# Altium footprint library PCB1.PcbLib: 16 footprints
Each footprint in its own frame and in the unit in brackets; x right, y up, seen from the top. Pads: shape width x height; smd on the part's side, far side on the other; paste and mask are expansions set on the pad; w line width, h text height; cw(c..) or ccw(c..) is an arc to the next point about the centre after c.
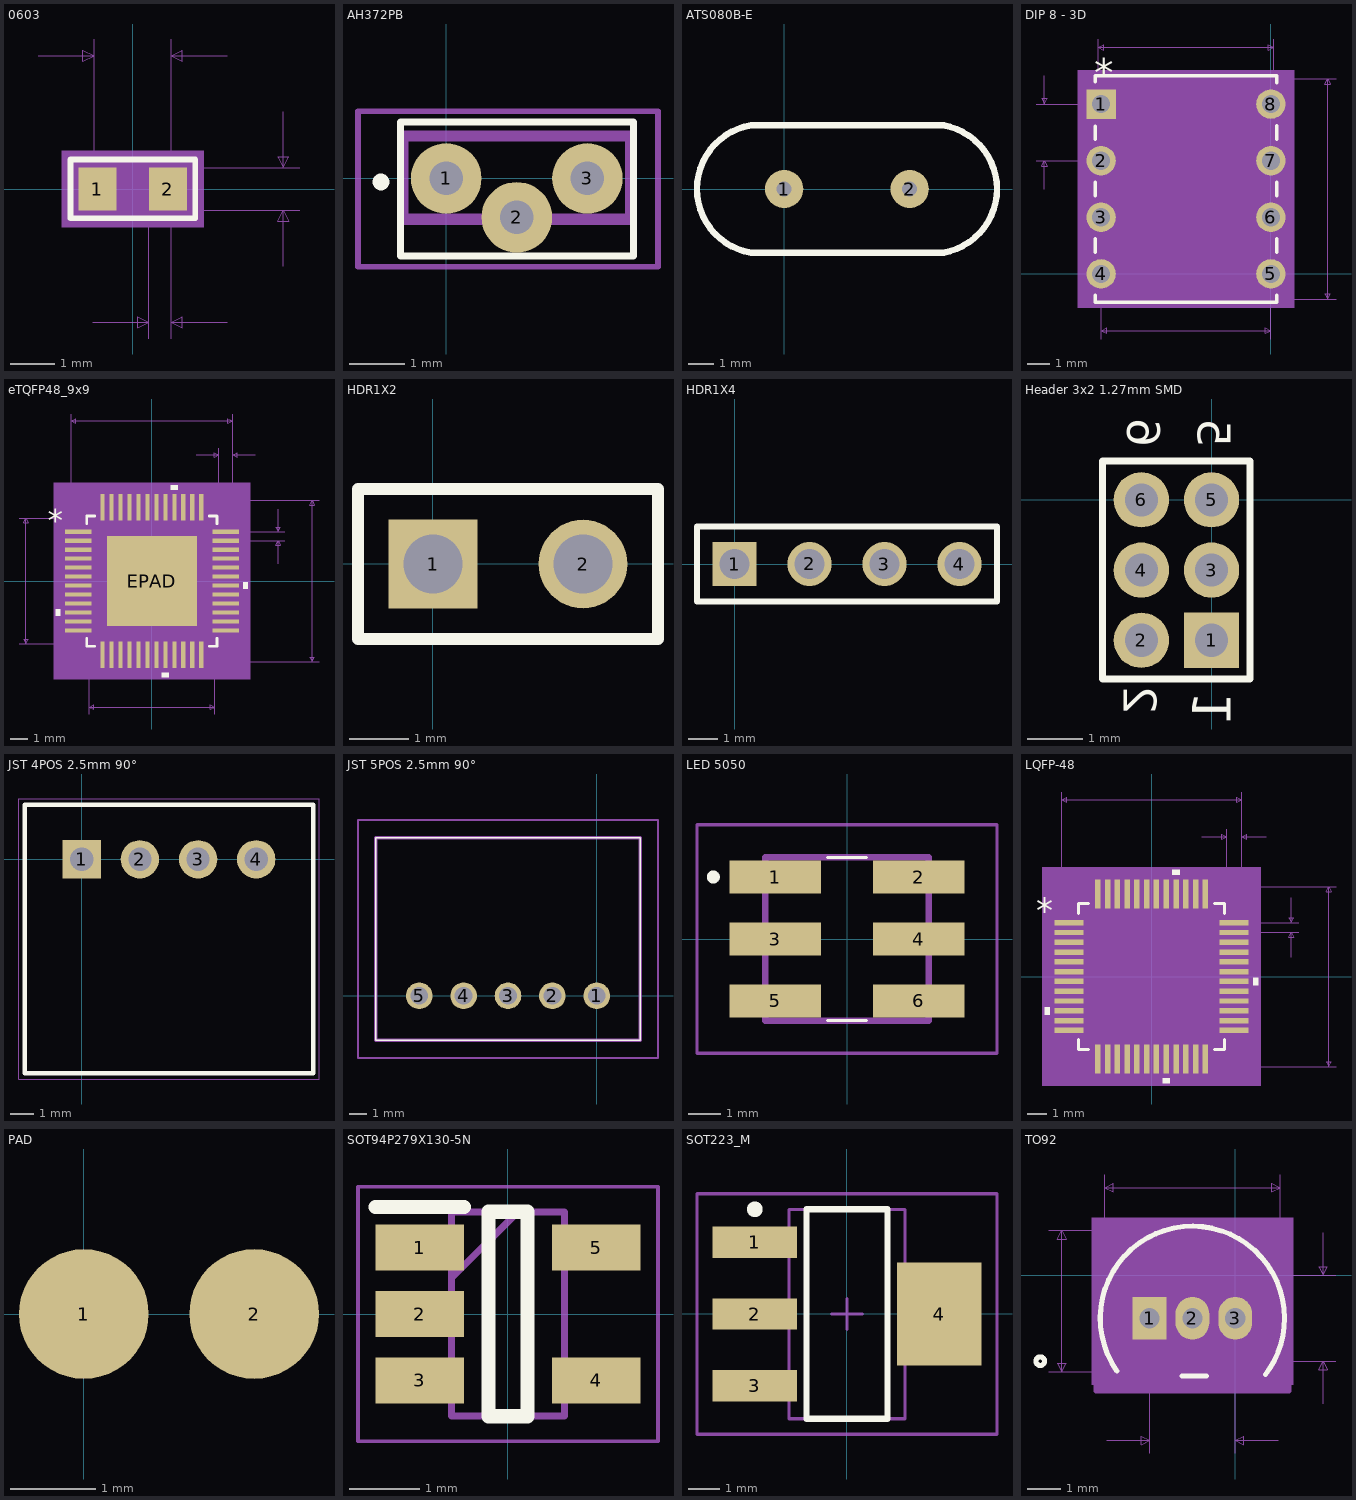
[diagram p0: the footprints below, top view; thin cyan lines are the x and y axes]

## 0603 [mil]
pads (2):
  rect 34x38 smd: 1(-31.5,0) 2(31.5,0)
Top Overlay:
  lines w5: -55.51,-25.98 -55.51,26.38 55.91,26.38 55.91,-25.98 -55.51,-25.98
Mechanical 5:
  region: 63.5,-34 -63.5,-34 -63.5,34 63.5,34
Mechanical 7:
  lines w1: -84.5,119 -34.5,119 ; -35.5,-119 14.5,-119 ; -34.5,0 -34.5,134 ; 0,-19 149.5,-19 ; 0,19 149.5,19 ; 14.5,-134 14.5,0 ; 34.5,-134 34.5,0 34.5,134 ; 84.5,-119 34.5,-119 ; 84.5,119 34.5,119 ; 134.5,-69 134.5,-19 ; 134.5,69 134.5,19 ; -34.5,119 -44.5,124 -44.5,114 -34.5,119 ; 14.5,-119 4.5,-114 4.5,-124 14.5,-119 ; 34.5,-119 44.5,-114 44.5,-124 34.5,-119 ; 34.5,119 44.5,124 44.5,114 34.5,119 ; 134.5,-19 129.5,-29 139.5,-29 134.5,-19 ; 134.5,19 129.5,29 139.5,29 134.5,19
  text "Default Padstyle: RX34Y38D0T" at -350,-289 h50
  text "Alternate 1 Padstyle: OX60Y90D30P" at -412.5,-389 h50
  text "Alternate 2 Padstyle: OX90Y60D30P" at -412.5,-489 h50
  text "0.038in/0.965mm" at 154.5,-12.5 h25
  text "0.069in/1.753mm" at -93.75,139 h25
  text "0.02in/0.508mm" at -63,-164 h25
Mechanical 13:
  lines w1: -34.5,-19 -34.5,19 ; -34.5,-19 -14.5,-19 -14.5,19 -34.5,19 ; -34.5,-19 34.5,-19 ; -34.5,-19 -34.5,19 ; -34.5,19 34.5,19 ; 34.5,-19 14.5,-19 14.5,19 34.5,19 ; 34.5,-19 34.5,19 ; 34.5,-19 34.5,19
Mechanical 15:
  region: 58.5,-29 -58.5,-29 -58.5,29 58.5,29
  lines w6: -58.5,-29 -58.5,29 58.5,29 58.5,-29 -58.5,-29
3D body "0603.step": height 35, standoff 0, extent -34.48,-19.01 34.5,19.02
3D body: height 10, standoff 0, extent 0,0 10,10

## AH372PB [mm]
pads (3):
  round 1.27 hole 0.6: 1(0,0) 2(1.27,-0.7) 3(2.54,0)
Top Overlay:
  lines w0.127: -0.826,-1.397 3.365,-1.397 3.365,1.016 -0.826,1.016 -0.826,-1.397
  lines w0.2: -1.224,-0.063 ccw(c-1.174,-0.063) -1.124,-0.063 ccw(c-1.174,-0.063) -1.224,-0.063
Mechanical 13:
  lines w0.2: -0.78,-0.735 3.32,-0.735 3.32,0.765 -0.78,0.765 -0.78,-0.735
Mechanical 15:
  lines w0.1: -1.588,-1.587 3.81,-1.587 3.81,1.206 -1.588,1.206 -1.588,-1.587

## ATS080B-E [mil] "Crystal/ Oscillator 8MHz"
height 144.88
pads (2):
  round 60 hole 23.62: 1(0,0) 2(196.85,0)
Top Overlay:
  lines w10: -51.71,-100 cw(c-35.43,0) -51.71,100 ; -50,-100 250,-100 ; -50,100 250,100 ; 249.41,-100 ccw(c232.28,0) 249.41,100
3D body: height 106.3, standoff 0, extent -50,100 -50,100
3D body: height 106.3, standoff 0, extent -129.92,102.36 -129.92,102.36
3D body: height 157.48, standoff 0, extent 148.04,-99.87 348.04,99.88
3D body: height 157.48, standoff 0, extent -151.18,-99.87 48.82,99.88
3D body: height 157.48, standoff 0, extent -50,-100 249.41,100

## DIP 8 - 3D [mil]
pads (8):
  rect 52x52 hole 32: 1(-300,300)
  round 52 hole 32: 2(-300,200) 3(-300,100) 4(-300,0) 5(0,0) 6(0,100) 7(0,200) 8(0,300)
Top Overlay:
  lines w6: -310,-37.8 -310,-50 10,-50 10,-37.8 ; -310,37.8 -310,62.2 ; -310,137.8 -310,162.2 ; -310,237.8 -310,260.9 ; -310,339.1 -310,350 10,350 10,337.8 ; 10,37.8 10,62.2 ; 10,137.8 10,162.2 ; 10,237.8 10,262.2
  text "*" at -312.5,331 h50
Mechanical 5:
  region: 41,-60 -341,-60 -341,360 41,360
Mechanical 7:
  lines w1: -415,200 -300,200 ; -415,300 -300,300 ; -400,150 -400,200 ; -400,350 -400,300 ; -305,0 -305,415 ; -300,-115 -300,0 ; -150,-45 115,-45 ; -150,345 115,345 ; 0,-115 0,0 ; 5,0 5,415 ; -400,200 -405,190 -395,190 -400,200 ; -400,300 -405,310 -395,310 -400,300 ; -305,400 5,400 ; -305,400 -295,405 -295,395 -305,400 ; -300,-100 0,-100 ; -300,-100 -290,-95 -290,-105 -300,-100 ; 0,-100 -10,-95 -10,-105 0,-100 ; 5,400 -5,405 -5,395 5,400 ; 100,-45 100,345 ; 100,-45 95,-35 105,-35 100,-45 ; 100,345 95,335 105,335 100,345
  text "Default Padstyle: EX52Y52D32P" at -512.5,-276 h50
  text "Pin 1 Padstyle: SX52Y52D32P" at -487.5,-376 h50
  text "Alt 1 Padstyle: OX60Y90D30P" at -487.5,-426 h50
  text "Alt 2 Padstyle: OX90Y60D30P" at -487.5,-476 h50
  text "0.1in/2.54mm" at -570,237.5 h25
  text "0.3in/7.62mm" at -225,-145 h25
  text "0.31in/7.874mm" at -237.5,420 h25
  text "0.39in/9.906mm" at 120,137.5 h25
Mechanical 13:
  lines w0: -162,345 ccw(c-150,345) -138,345
  lines w1: -316,-16 -316,16 -305,16 -305,-16 -316,-16 ; -316,84 -316,116 -305,116 -305,84 -316,84 ; -316,184 -316,216 -305,216 -305,184 -316,184 ; -316,284 -316,316 -305,316 -305,284 -316,284 ; -305,-45 5,-45 5,345 -305,345 -305,-45 ; 5,-16 5,16 16,16 16,-16 5,-16 ; 5,84 5,116 16,116 16,84 5,84 ; 5,184 5,216 16,216 16,184 5,184 ; 5,284 5,316 16,316 16,284 5,284
  text "*" at -307.5,275 h50
Mechanical 15:
  region: 15,-10 36,-10 36,310 15,310 15,355 -315,355 -315,310 -336,310 -336,-10 -315,-10 -315,-55 15,-55
  lines w6: -336,-10 -336,310 -315,310 -315,355 15,355 15,310 36,310 36,-10 15,-10 15,-55 -315,-55 -315,-10 -336,-10
3D body "MAX485.step": height 185.12, standoff -100, extent -309.61,-45 5,345
3D body: height 10, standoff 0, extent 0,0 10,10

## eTQFP48_9x9 [mil]
pads (49):
  rect 58x9 smd paste+0 mask+0: 1(-162,108.27) 2(-162,88.58) 3(-162,68.9) 4(-162,49.21) 5(-162,29.53) 6(-162,9.84) 7(-162,-9.84) 8(-162,-29.53) 9(-162,-49.21) 10(-162,-68.9) 11(-162,-88.58) 12(-162,-108.27) 25(162,-108.27) 26(162,-88.58) 27(162,-68.9) 28(162,-49.21) 29(162,-29.53) 30(162,-9.84) 31(162,9.84) 32(162,29.53) 33(162,49.21) 34(162,68.9) 35(162,88.58) 36(162,108.27)
  rect 9x58 smd paste+0 mask+0: 13(-108.27,-162) 14(-88.58,-162) 15(-68.9,-162) 16(-49.21,-162) 17(-29.53,-162) 18(-9.84,-162) 19(9.84,-162) 20(29.53,-162) 21(49.21,-162) 22(68.9,-162) 23(88.58,-162) 24(108.27,-162) 37(108.27,162) 38(88.58,162) 39(68.9,162) 40(49.21,162) 41(29.53,162) 42(9.84,162) 43(-9.84,162) 44(-29.53,162) 45(-49.21,162) 46(-68.9,162) 47(-88.58,162) 48(-108.27,162)
  rect 197x197 smd paste-98 mask+0: EPAD(0,0)
Top Overlay:
  region: -201,-61.4 -211,-61.4 -211,-76.4 -201,-76.4
  region: 37.03,-201 22.03,-201 22.03,-211 37.03,-211
  region: 201,-2.34 211,-2.34 211,-17.34 201,-17.34
  region: 56.71,201 41.71,201 41.71,211 56.71,211
  lines w6: -143,-125.87 -143,-143 -125.87,-143 ; -143,125.87 -143,143 -125.87,143 ; 125.87,-143 143,-143 143,-125.87 ; 125.87,143 143,143 143,125.87
  text "*" at -228.5,108.11 h50
Top Paste:
  region: -36.77,94.56 -94.56,94.56 -94.56,36.77 -36.77,36.77
  region: -36.77,28.9 -94.56,28.9 -94.56,-28.9 -36.77,-28.9
  region: -36.77,-36.77 -94.56,-36.77 -94.56,-94.56 -36.77,-94.56
  region: 28.9,94.56 -28.9,94.56 -28.9,36.77 28.9,36.77
  region: 28.9,28.9 -28.9,28.9 -28.9,-28.9 28.9,-28.9
  region: 28.9,-36.77 -28.9,-36.77 -28.9,-94.56 28.9,-94.56
  region: 94.56,94.56 36.77,94.56 36.77,36.77 94.56,36.77
  region: 94.56,28.9 36.77,28.9 36.77,-28.9 94.56,-28.9
  region: 94.56,-36.77 36.77,-36.77 36.77,-94.56 94.56,-94.56
Mechanical 5:
  region: 216,-216 -216,-216 -216,216 216,216
Mechanical 7:
  lines w1: -292,-138 -108.27,-138 ; -292,138 -108.27,138 ; -177,108.27 -177,367 ; -138,-292 -138,-108.27 ; 97,277 147,277 ; 108.27,-177 367,-177 ; 108.27,177 367,177 ; 138,-292 138,-108.27 ; 147,108.27 147,292 ; 162,88.58 292,88.58 ; 162,108.27 292,108.27 ; 177,292 177,108.27 177,367 ; 227,277 177,277 ; 277,38.58 277,88.58 ; 277,158.27 277,108.27 ; -277,-138 -277,138 ; -277,-138 -282,-128 -272,-128 -277,-138 ; -277,138 -282,128 -272,128 -277,138 ; -177,352 177,352 ; -177,352 -167,357 -167,347 -177,352 ; -138,-277 138,-277 ; -138,-277 -128,-272 -128,-282 -138,-277 ; 138,-277 128,-272 128,-282 138,-277 ; 147,277 137,282 137,272 147,277 ; 177,277 187,282 187,272 177,277 ; 177,352 167,357 167,347 177,352 ; 277,88.58 272,78.58 282,78.58 277,88.58 ; 277,108.27 272,118.27 282,118.27 277,108.27 ; 352,-177 352,177 ; 352,-177 347,-167 357,-167 352,-177 ; 352,177 347,167 357,167 352,177
  text "Default Horiz Padstyle: RX9Y58D0T" at -412.5,-427 h50
  text "Default Vert Padstyle: RX9Y58D0T" at -400,-487 h50
  text "Heat Tab Padstyle: RX197Y197D0T" at -387.5,-547 h50
  text "Alt 1 Padstyle: OX60Y90D30P" at -337.5,-667 h50
  text "Alt 2 Padstyle: OX90Y60D30P" at -337.5,-727 h50
  text "0.02in/0.5mm" at 297,85.93 h25
  text "0.03in/0.762mm" at 74.5,297 h25
  text "0.354in/8.992mm" at -93.75,372 h25
  text "0.276in/7.01mm" at -87.5,-322 h25
  text "0.276in/7.01mm" at -472,-12.5 h25
  text "0.354in/8.992mm" at 372,-12.5 h25
Mechanical 13:
  drawing of 197 lines, arcs and shapes, not listed
  text "*" at -135.5,93.11 h50
Mechanical 15:
  region: -122.77,-148 -148,-148 -148,-122.77 -201,-122.77 -201,122.77 -148,122.77 -148,148 -122.77,148 -122.77,201 122.77,201 122.77,148 148,148 148,122.77 201,122.77 201,-122.77 148,-122.77 148,-148 122.77,-148 122.77,-201 -122.77,-201
  lines w6: -201,-122.77 -148,-122.77 -148,-148 -122.77,-148 -122.77,-201 122.77,-201 122.77,-148 148,-148 148,-122.77 201,-122.77 201,122.77 148,122.77 148,148 122.77,148 122.77,201 -122.77,201 -122.77,148 -148,148 -148,122.77 -201,122.77 -201,-122.77
3D body: height 10, standoff 0, extent 0,0 10,10
3D body "TMC2130.step": height 47.09, standoff -2.01, extent -177.01,-177 177.01,177.01

## HDR1X2 [mm] "Connector; Header; 2 Position"
pads (2):
  rect 1.5x1.5 hole 1: 1(0,0)
  round 1.5 hole 1: 2(2.54,0)
Top Overlay:
  lines w0.2: -1.27,-1.27 -1.27,1.27 3.81,1.27 3.81,-1.27 -1.27,-1.27

## HDR1X4 [mm] "Connector; Header; 4 Position"
pads (4):
  rect 1.5x1.5 hole 1: 1(0,0)
  round 1.5 hole 1: 2(2.54,0) 3(5.08,0) 4(7.62,0)
Top Overlay:
  lines w0.2: -1.27,-1.27 8.89,-1.27 8.89,1.27 -1.27,1.27 -1.27,-1.27

## Header 3x2 1.27mm SMD [mm]
pads (6):
  rect 1x1 hole 0.6: 1(0,-2.54)
  round 1 hole 0.6: 2(-1.27,-2.54) 3(0,-1.27) 4(-1.27,-1.27) 5(0,0) 6(-1.27,0)
Top Overlay:
  lines w0.127: -1.969,-3.238 -1.969,0.699 0.699,0.699 0.698,-3.238 -1.969,-3.238
  text "1" at 0.344,-3.467 h0.7
  text "2" at -1.587,-3.873 h0.6
  text "6" at -1.524,0.953 h0.6
  text "5" at -0.254,0.953 h0.6

## JST 4POS 2.5mm 90° [mm]
pads (4):
  rect 1.65x1.65 hole 1: 1(0,0)
  round 1.65 hole 1: 2(2.5,0) 3(5,0) 4(7.5,0)
Top Overlay:
  lines w0.2: -2.45,-9.2 -2.45,0 -2.45,2.35 9.95,2.35 9.95,-9.2 0,-9.2 -2.45,-9.2
Mechanical 13:
  lines w0.1: -2.45,-9.2 -2.45,2.35 9.95,2.35 9.95,-9.2 -2.45,-9.2
Mechanical 15:
  lines w0.05: -2.7,-9.45 -2.7,2.6 10.2,2.6 10.2,-9.45 -2.7,-9.45
3D body: height 6, standoff 0, extent -2.45,-9.2 9.95,2.35

## JST 5POS 2.5mm 90° [mm]
pads (5):
  round 1.5 hole 1: 1(0,0) 2(-2.5,0) 3(-5,0) 4(-7.5,0) 5(-10,0)
Top Overlay:
  lines w0.1: -12.45,-2.5 -12.45,8.9 2.45,8.9 2.45,-2.5 -12.45,-2.5
Mechanical 13:
  lines w0.2: -12.45,-2.5 -12.45,8.9 2.45,8.9 2.45,-2.5 -12.45,-2.5
Mechanical 15:
  lines w0.1: -13.45,-3.5 -13.45,9.9 3.45,9.9 3.45,-3.5 -13.45,-3.5
3D body: height 6, standoff 0, extent -12.45,-2.5 2.45,8.9
3D body "S5B-XH-A-1_LF__SN_.stp": height 6.1, standoff -5, extent -12.45,-2.5 2.45,8.9

## LED 5050 [mm]
pads (6):
  rect 2.8x1 smd: 1(-2.2,1.9) 2(2.2,1.9) 3(-2.2,0) 4(2.2,0) 5(-2.2,-1.9) 6(2.2,-1.9)
Top Overlay:
  lines w0.1: -0.6,-2.5 0.6,-2.5 ; -0.6,2.5 0.6,2.5
  lines w0.2: -4.1,1.8 ccw(c-4.1,1.9) -4.1,2 ccw(c-4.1,1.9) -4.1,1.8
Mechanical 13:
  lines w0.2: -2.5,-2.5 -2.5,2.5 2.5,2.5 2.5,-2.5 -2.5,-2.5
Mechanical 15:
  lines w0.1: -4.6,-3.5 -4.6,3.5 4.6,3.5 4.6,-3.5 -4.6,-3.5
3D body: height 1.2, standoff 0, extent -2.6,-2.5 2.4,2.5
3D body: height 2.7, standoff 0, extent -2.1,2.5 -2.1,2.5
3D body: height 2.7, standoff 0, extent -1.5,2.5 -1.5,2.5
3D body: height 2.7, standoff 0, extent -1.5,2.6 -1.5,2.6
3D body: height 2.7, standoff 0, extent -1.778,2.54 -1.778,2.54
3D body: height 1.3, standoff 1.2, extent -1.775,-1.85 1.825,1.75

## LQFP-48 [mil]
pads (48):
  rect 58x11 smd: 1(-166,108.27) 2(-166,88.58) 3(-166,68.9) 4(-166,49.21) 5(-166,29.53) 6(-166,9.84) 7(-166,-9.84) 8(-166,-29.53) 9(-166,-49.21) 10(-166,-68.9) 11(-166,-88.58) 12(-166,-108.27) 25(166,-108.27) 26(166,-88.58) 27(166,-68.9) 28(166,-49.21) 29(166,-29.53) 30(166,-9.84) 31(166,9.84) 32(166,29.53) 33(166,49.21) 34(166,68.9) 35(166,88.58) 36(166,108.27)
  rect 11x58 smd: 13(-108.27,-166) 14(-88.58,-166) 15(-68.9,-166) 16(-49.21,-166) 17(-29.53,-166) 18(-9.84,-166) 19(9.84,-166) 20(29.53,-166) 21(49.21,-166) 22(68.9,-166) 23(88.58,-166) 24(108.27,-166) 37(108.27,166) 38(88.58,166) 39(68.9,166) 40(49.21,166) 41(29.53,166) 42(9.84,166) 43(-9.84,166) 44(-29.53,166) 45(-49.21,166) 46(-68.9,166) 47(-88.58,166) 48(-108.27,166)
Top Overlay:
  region: -205,-61.4 -215,-61.4 -215,-76.4 -205,-76.4
  region: 37.03,-205 22.03,-205 22.03,-215 37.03,-215
  region: 205,-2.34 215,-2.34 215,-17.34 205,-17.34
  region: 56.71,205 41.71,205 41.71,215 56.71,215
  lines w6: -147,-126.87 -147,-147 -126.87,-147 ; -147,126.87 -147,147 -126.87,147 ; 126.87,-147 147,-147 147,-126.87 ; 126.87,147 147,147 147,126.87
  text "*" at -232.5,108.11 h50
Mechanical 5:
  region: 220,-220 -220,-220 -220,220 220,220
Mechanical 7:
  lines w1: -181,108.27 -181,371 ; 101,281 151,281 ; 108.27,-181 371,-181 ; 108.27,181 371,181 ; 151,108.27 151,296 ; 166,88.58 296,88.58 ; 166,108.27 296,108.27 ; 181,296 181,108.27 181,371 ; 231,281 181,281 ; 281,38.58 281,88.58 ; 281,158.27 281,108.27 ; -181,356 181,356 ; -181,356 -171,361 -171,351 -181,356 ; 151,281 141,286 141,276 151,281 ; 181,281 191,286 191,276 181,281 ; 181,356 171,361 171,351 181,356 ; 281,88.58 276,78.58 286,78.58 281,88.58 ; 281,108.27 276,118.27 286,118.27 281,108.27 ; 356,-181 356,181 ; 356,-181 351,-171 361,-171 356,-181 ; 356,181 351,171 361,171 356,181
  text "Default Horiz Padstyle: RX11Y58D0T" at -425,-431 h50
  text "Default Vert Padstyle: RX11Y58D0T" at -412.5,-491 h50
  text "Alt 1 Padstyle: OX60Y90D30P" at -337.5,-671 h50
  text "Alt 2 Padstyle: OX90Y60D30P" at -337.5,-731 h50
  text "0.02in/0.5mm" at 301,85.93 h25
  text "0.03in/0.762mm" at 78.5,301 h25
  text "0.362in/9.195mm" at -93.75,376 h25
  text "0.362in/9.195mm" at 376,-12.5 h25
Mechanical 13:
  drawing of 197 lines, arcs and shapes, not listed
  text "*" at -139.5,93.11 h50
Mechanical 15:
  region: -128.27,-152 -152,-152 -152,-128.27 -206.5,-128.27 -206.5,128.27 -152,128.27 -152,152 -128.27,152 -128.27,206.5 128.27,206.5 128.27,152 152,152 152,128.27 206.5,128.27 206.5,-128.27 152,-128.27 152,-152 128.27,-152 128.27,-206.5 -128.27,-206.5
  lines w6: -206.5,-128.27 -152,-128.27 -152,-152 -128.27,-152 -128.27,-206.5 128.27,-206.5 128.27,-152 152,-152 152,-128.27 206.5,-128.27 206.5,128.27 152,128.27 152,152 128.27,152 128.27,206.5 -128.27,206.5 -128.27,152 -152,152 -152,128.27 -206.5,128.27 -206.5,-128.27
3D body "STM32F103C8T6.step": height 63.11, standoff 0, extent -180.98,-180.98 180.99,180.99
3D body: height 10, standoff 0, extent 0,0 10,10

## PAD [mil] "pad for connection"
pads (2):
  round 60 smd: 1(0,0) 2(78.74,0)

## SOT94P279X130-5N [mm]
pads (5):
  rect 1.25x0.65 smd: 1(-1.25,0.94) 2(-1.25,0) 3(-1.25,-0.94) 4(1.25,-0.94) 5(1.25,0.94)
Top Overlay:
  lines w0.2: -1.875,1.514 -0.625,1.514 ; -0.275,-1.448 0.275,-1.448 0.275,1.448 -0.275,1.448 -0.275,-1.448
Mechanical 13:
  lines w0.1: -0.8,0.508 0.14,1.448 ; -0.8,-1.448 0.8,-1.448 0.8,1.448 -0.8,1.448 -0.8,-1.448
Mechanical 15:
  lines w0.05: -2.125,-1.8 2.125,-1.8 2.125,1.8 -2.125,1.8 -2.125,-1.8
3D body "RT9193-28GB.stp": height 1.3, standoff 0, extent -1.397,-1.448 1.397,1.448

## SOT223_M [mm] "SOT223, 4-Leads, Body 6.5x3.5mm, Pitch 2.3mm, Lead Span 7mm, IPC Low Density"
height 1.7
pads (4):
  rect 2.7x1 smd: 1(-2.95,2.3) 2(-2.95,0) 3(-2.95,-2.3)
  rect 2.7x3.3 smd: 4(2.95,0)
Top Overlay:
  circle w0.25: c-2.95,3.35 r0.125
  lines w0.2: -1.3,-3.35 -1.3,3.35 1.3,3.35 1.3,-3.35 -1.3,-3.35
Mechanical 13:
  lines w0.1: -1.85,-3.35 -1.85,3.35 1.85,3.35 1.85,-3.35 -1.85,-3.35
Mechanical 15:
  lines w0.1: -0.5,0 0.5,0 ; 0,-0.5 0,0.5 ; -4.8,-3.85 -4.8,3.85 4.8,3.85 4.8,-3.85 -4.8,-3.85
3D body: height 1.7, standoff 0, extent -1.85,-3.35 1.85,3.35

## TO92 [mm]
pads (3):
  rect 1x1.27 hole 0.6: 1(-2.54,-1.27)
  oval 1x1.27 hole 0.6: 2(-1.27,-1.27) 3(0,-1.27)
Top Overlay:
  circle w0.152: c-5.779,-2.54 r0.127
  lines w0.152: -3.508,-2.835 cw(c-1.27,-1.27) 1.46,-1.27 cw(c-1.27,-1.27) 0.894,-2.935 ; -1.572,-2.984 -0.86,-2.984
Mechanical 1:
  circle w0.1: c0,-1.27 r0.192
  circle w0.1: c-1.27,-1.27 r0.192
  circle w0.1: c-2.54,-1.27 r0.192
  lines w0.1: 0.745,-2.795 -3.294,-2.795 cw(c-1.27,-1.27) 0.75,-2.8
Mechanical 5:
  region: -4.255,1.714 1.714,1.714 1.714,-3.238 -4.255,-3.238
Mechanical 7:
  lines w0.025: -5.524,-2.857 -1.27,-2.857 ; -5.524,1.333 -1.27,1.333 ; -3.873,-1.27 -3.873,2.984 ; -3.81,-4.889 -2.54,-4.889 ; -2.54,-5.271 -2.54,-2.54 ; -1.016,0 2.984,0 ; 0,-5.271 0,-2.54 2.984,-2.54 ; 1.27,-4.889 0,-4.889 ; 1.333,-1.27 1.333,2.984 ; 2.603,-3.81 2.603,-2.54 ; 2.603,1.27 2.603,0 ; -5.143,-2.857 -5.016,-2.603 -5.271,-2.603 -5.143,-2.857 ; -5.143,-2.857 -5.143,1.333 ; -5.143,1.333 -5.016,1.079 -5.271,1.079 -5.143,1.333 ; -3.873,2.603 -3.619,2.476 -3.619,2.73 -3.873,2.603 ; -3.873,2.603 1.333,2.603 ; -2.54,-4.889 -2.794,-5.016 -2.794,-4.763 -2.54,-4.889 ; 0,-4.889 0.254,-5.016 0.254,-4.763 0,-4.889 ; 1.333,2.603 1.079,2.476 1.079,2.73 1.333,2.603 ; 2.603,-2.54 2.73,-2.794 2.476,-2.794 2.603,-2.54 ; 2.603,0 2.73,0.254 2.476,0.254 2.603,0
  text "0.165in/4.191mm" at -10.414,-1.587 h0.64
  text "0.1in/2.54mm" at -3.175,-6.032 h0.64
  text "0.1in/2.54mm" at 3.111,-1.587 h0.64
  text "0.205in/5.207mm" at -3.651,3.111 h0.64
  text "Alt 2 Padstyle: OX90Y60D30P" at -9.842,-14.287 h1.27
  text "Alt 1 Padstyle: OX60Y90D30P" at -9.842,-12.763 h1.27
  text "Pin 1 Padstyle: EX50Y50D30P" at -9.842,-11.239 h1.27
  text "Default Padstyle: SX50Y50D30P" at -10.477,-9.716 h1.27
  text "Pinout: 1, 2, 3" at -6.032,-8.191 h1.27
Mechanical 13:
  circle w0: c-3.619,-2.54 r0.127
  lines w0: -3.334,-2.857 cw(c-1.27,-1.27) 0.794,-2.857
  lines w0.025: -3.334,-2.857 0.794,-2.857
  lines w0.152: -2.794,-2.54 -2.286,-2.54 ; -2.54,-2.794 -2.54,-2.286
Mechanical 15:
  region: 1.587,-3.429 -4.127,-3.429 -4.127,1.587 1.587,1.587
  lines w0.152: -4.127,-3.429 1.587,-3.429 1.587,1.587 -4.127,1.587 -4.127,-3.429
3D body: height 4, standoff 0.5, extent -3.815,-2.8 1.275,1.264
3D body: height 0.5, standoff 0, extent -0.192,-1.462 0.192,-1.078
3D body: height 0.5, standoff 0, extent -1.462,-1.462 -1.078,-1.078
3D body: height 0.5, standoff 0, extent -2.732,-1.462 -2.348,-1.078
3D body: height 0.25, standoff 0, extent -2.54,-1.27 -2.54,-1.27